# Altium schematic symbol library Portable power supply.SchLib: 65 symbols
Pins are listed as number, name and electrical type; pins without a type are passive.

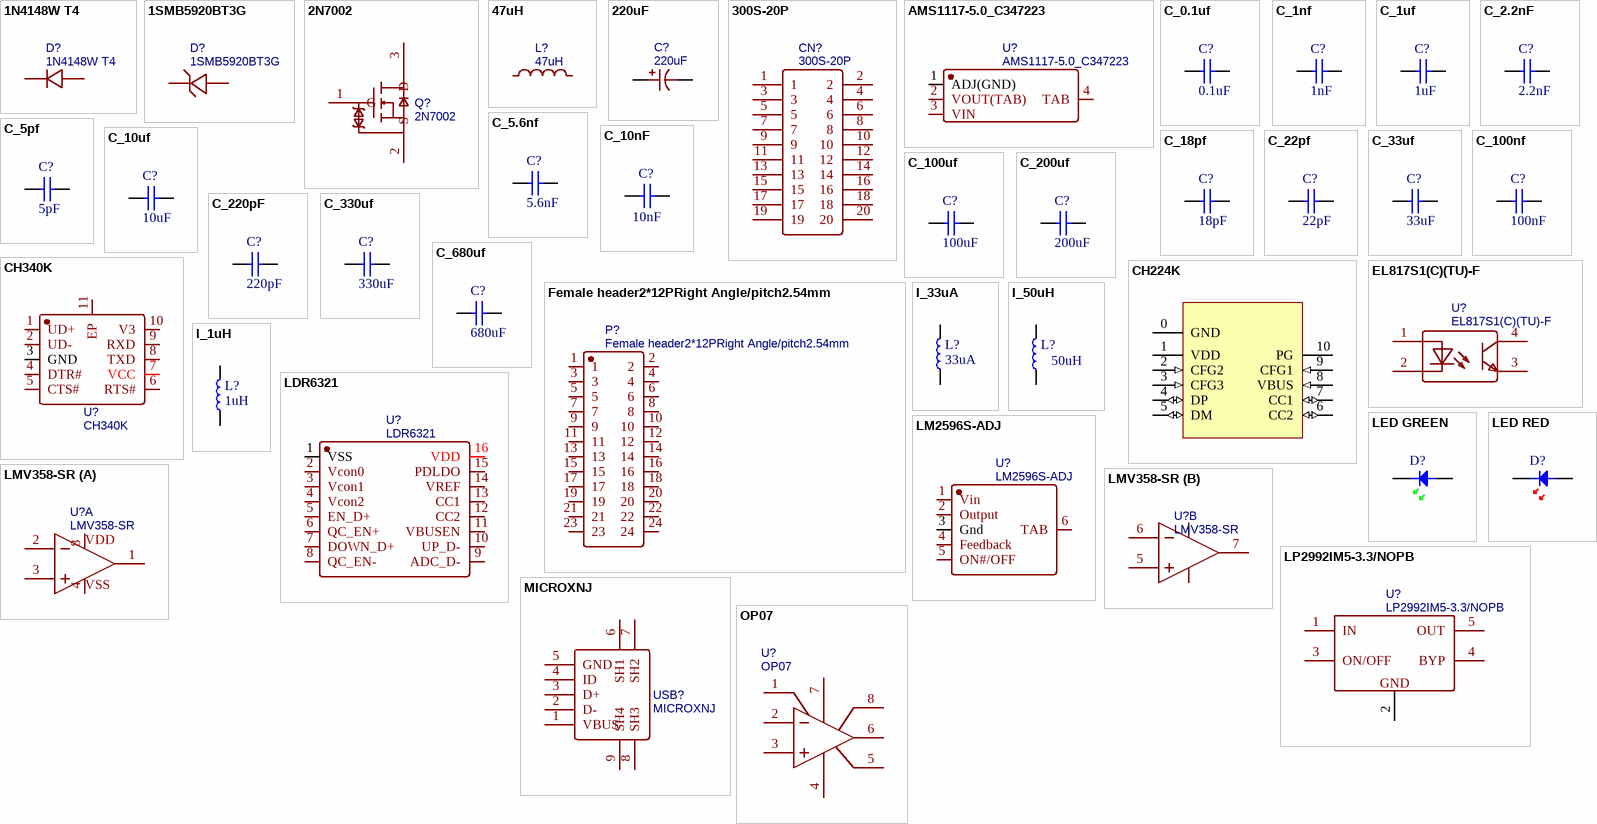
[diagram p0: symbols 1N4148W T4 to OP07]

## 1N4148W T4
designator D?
BOM_Manufacturer: CJ; Contributor: 立创EDA官方封装库; BOM_Supplier: LCSC; BOM_Manufacturer Part: 1N4148W T4; BOM_Supplier Part: C2099; BOM_JLCPCB Part Class: Extended Part; spicePre: D; spiceSymbolName: 1N4148W T4
footprint SOD-123_L2.8-W1.8-LS3.7-RD
pins: 1 K, 2 A

## 1SMB5920BT3G
designator D?
BOM_Manufacturer: ON; BOM_Supplier: LCSC; BOM_Manufacturer Part: 1SMB5920BT3G; BOM_Supplier Part: C50527; BOM_JLCPCB Part Class: Extended Part; spicePre: D; spiceSymbolName: 1SMB5920BT3G
footprint SMB_L4.6-W3.6-LS5.3-RD
pins: 1 K, 2 A

## 2N7002
designator Q?
BOM_Manufacturer: JSMSEMI(杰盛微); Contributor: LCSC; BOM_Supplier: LCSC; BOM_Supplier Part: C916396; BOM_Manufacturer Part: 2N7002; BOM_JLCPCB Part Class: Extended Part; spicePre: Q; spiceSymbolName: 2N7002_C916396
footprint SOT-23-3_L2.9-W1.3-P1.90-LS2.4-BR
pins: 1 G, 2 S, 3 D

## 47uH
designator L?
BOM_Manufacturer: YJYCOIN; BOM_Manufacturer Part: YSPI1365-470M; nameAlias: Inductance; Contributor: LCSC; BOM_Supplier: LCSC; BOM_Supplier Part: C497913; BOM_JLCPCB Part Class: Extended Part; spicePre: L; spiceSymbolName: YSPI1365-470M
footprint IND-SMD_L12.6-W12.6_MCF-13XX
pins: 1, 2

## 220uF
designator C?
BOM_Manufacturer: KNSCHA(科尼盛); BOM_Manufacturer Part: RVT220UF50V67RV0021; nameAlias: Capacitance; Contributor: LCSC; BOM_Supplier: LCSC; BOM_Supplier Part: C2887271; BOM_JLCPCB Part Class: Extended Part; spicePre: C; spiceSymbolName: RVT220UF50V67RV0021
footprint CAP-SMD_BD10.0-L10.3-W10.3-LS11.0-FD
pins: 1, 2

## 300S-20P
designator CN?
BOM_Manufacturer: Shenzhen Cankemeng; Contributor: LCSC; BOM_Supplier: LCSC; BOM_Supplier Part: C132442; BOM_Manufacturer Part: -; BOM_JLCPCB Part Class: Extended Part; spicePre: C; spiceSymbolName: 300S-20P
footprint CONN-TH_300S-20P
pins: 1, 2, 3, 4, 5, 6, 7, 8, 9, 10, 11, 12, 13, 14, 15, 16, 17, 18, 19, 20

## AMS1117-5.0_C347223
designator U?
BOM_Manufacturer: Youtai Semiconductor Co., Ltd.; Contributor: LCSC; BOM_Supplier: LCSC; BOM_Supplier Part: C347223; BOM_Manufacturer Part: AMS1117-5.0; BOM_JLCPCB Part Class: Extended Part; spicePre: U; spiceSymbolName: AMS1117-5.0_C347223
footprint SOT-223_L6.7-W3.5-P2.30-BR
pins: 1 ADJ(GND), 2 VOUT(TAB), 3 VIN, 4 TAB

## C_0.1uf
designator C?, comment 0.1uF
Capacitor; Reviewed by: RM - 2018/08/05; Revision: July-2002: Re-released for DXP Platform.; Supplier 1: *; Supplier Part Number 1: *; Value: 0.1uF
simulation model CAP (Default semiconductor capacitor)
footprint 0805C (0805 Footprint)
pins: 1, 2

## C_1nf
designator C?, comment 1nF
Capacitor; Reviewed by: RM - 2018/08/05; Revision: July-2002: Re-released for DXP Platform.; Supplier 1: *; Supplier Part Number 1: *; Value: 1nF
simulation model CAP (Default semiconductor capacitor)
footprint 0805C (0805 Footprint)
pins: 1, 2

## C_1uf
designator C?, comment 1uF
Capacitor; Reviewed by: RM - 2018/08/05; Revision: July-2002: Re-released for DXP Platform.; Supplier 1: *; Supplier Part Number 1: *; Value: 1uF
simulation model CAP (Default semiconductor capacitor)
footprint 0805C (0805 Footprint)
pins: 1, 2

## C_2.2nF
designator C?, comment 2.2nF
Capacitor; Reviewed by: RM - 2018/08/05; Revision: July-2002: Re-released for DXP Platform.; Supplier 1: *; Supplier Part Number 1: *; Value: 2.2nF
simulation model CAP (Default semiconductor capacitor)
footprint 0805C (0805 Footprint)
pins: 1, 2

## C_5.6nf
designator C?, comment 5.6nF
Capacitor; Reviewed by: RM - 2018/08/05; Revision: July-2002: Re-released for DXP Platform.; Supplier 1: *; Supplier Part Number 1: *; Value: 5.6nF
simulation model CAP (Default semiconductor capacitor)
footprint 0805C (0805 Footprint)
pins: 1, 2

## C_5pf
designator C?, comment 5pF
Capacitor; Reviewed by: RM - 2018/08/05; Revision: July-2002: Re-released for DXP Platform.; Supplier 1: *; Supplier Part Number 1: *; Value: 5pF
simulation model CAP (Default semiconductor capacitor)
footprint 0805C (0805 Footprint)
pins: 1, 2

## C_10nF
designator C?, comment 10nF
Capacitor; Reviewed by: RM - 2018/08/05; Revision: July-2002: Re-released for DXP Platform.; Supplier 1: *; Supplier Part Number 1: *; Value: 10nF
simulation model CAP (Default semiconductor capacitor)
footprint 0805C (0805 Footprint)
pins: 1, 2

## C_10uf
designator C?, comment 10uF
Capacitor; Reviewed by: RM - 2018/08/05; Revision: July-2002: Re-released for DXP Platform.; Supplier 1: *; Supplier Part Number 1: *; Value: 10uF
simulation model CAP (Default semiconductor capacitor)
footprint 0805C (0805 Footprint)
pins: 1, 2

## C_18pf
designator C?, comment 18pF
Capacitor; Reviewed by: RM - 2018/08/05; Revision: July-2002: Re-released for DXP Platform.; Supplier 1: *; Supplier Part Number 1: *; Value: 18pF
simulation model CAP (Default semiconductor capacitor)
footprint 0805C (0805 Footprint)
pins: 1, 2

## C_22pf
designator C?, comment 22pF
Capacitor; Reviewed by: RM - 2018/08/05; Revision: July-2002: Re-released for DXP Platform.; Supplier 1: *; Supplier Part Number 1: *; Value: 22pF
simulation model CAP (Default semiconductor capacitor)
footprint 0805C (0805 Footprint)
pins: 1, 2

## C_33uf
designator C?, comment 33uF
Capacitor; Reviewed by: RM - 2018/08/05; Revision: July-2002: Re-released for DXP Platform.; Supplier 1: *; Supplier Part Number 1: *; Value: 33uF
simulation model CAP (Default semiconductor capacitor)
footprint 0805C (0805 Footprint)
pins: 1, 2

## C_100nf
designator C?, comment 100nF
Capacitor; Reviewed by: RM - 2018/08/05; Revision: July-2002: Re-released for DXP Platform.; Supplier 1: *; Supplier Part Number 1: *; Value: 100nF
simulation model CAP (Default semiconductor capacitor)
footprint 0805C (0805 Footprint)
pins: 1, 2

## C_100uf
designator C?, comment 100uF
Capacitor; Reviewed by: RM - 2018/08/05; Revision: July-2002: Re-released for DXP Platform.; Supplier 1: *; Supplier Part Number 1: *; Value: 100uF
simulation model CAP (Default semiconductor capacitor)
footprint 0805C (0805 Footprint)
pins: 1, 2

## C_200uf
designator C?, comment 200uF
Capacitor; Reviewed by: RM - 2018/08/05; Revision: July-2002: Re-released for DXP Platform.; Supplier 1: *; Supplier Part Number 1: *; Value: 200uF
simulation model CAP (Default semiconductor capacitor)
footprint 0805C (0805 Footprint)
pins: 1, 2

## C_220pF
designator C?, comment 220pF
Capacitor; Reviewed by: RM - 2018/08/05; Revision: July-2002: Re-released for DXP Platform.; Supplier 1: *; Supplier Part Number 1: *; Value: 220pF
simulation model CAP (Default semiconductor capacitor)
footprint 0805C (0805 Footprint)
pins: 1, 2

## C_330uf
designator C?, comment 330uF
Capacitor; Reviewed by: RM - 2018/08/05; Revision: July-2002: Re-released for DXP Platform.; Supplier 1: *; Supplier Part Number 1: *; Value: 330uF
simulation model CAP (Default semiconductor capacitor)
footprint 0805C
pins: 1, 2

## C_680uf
designator C?, comment 680uF
Capacitor; Reviewed by: RM - 2018/08/05; Revision: July-2002: Re-released for DXP Platform.; Supplier 1: *; Supplier Part Number 1: *; Value: 680uF
simulation model CAP (Default semiconductor capacitor)
footprint 0805C (0805 Footprint)
pins: 1, 2

## CH224K
designator U?  (value not drawn)
USB PD & Type-C & Fast Charge Power Consumer Controller
footprint ESSOP10
pins: 0 GND (power), 1 VDD (power), 2 CFG2 (in), 3 CFG3 (in), 4 DP (io), 5 DM (io), 6 CC2 (io), 7 CC1 (io), 8 VBUS (in), 9 CFG1 (in), 10 PG

## CH340K
designator U?
BOM_Manufacturer: WCH(Jiangsu Qin Heng); Contributor: LCSC; BOM_Supplier: LCSC; BOM_Supplier Part: C968586; BOM_Manufacturer Part: CH340K; BOM_JLCPCB Part Class: Extended Part; spicePre: U; spiceSymbolName: CH340K
footprint ESOP-10_L4.9-W3.9-P1.00-LS6.2-BL-EP
pins: 1 UD+, 2 UD-, 3 GND, 4 DTR#, 5 CTS#, 6 RTS#, 7 VCC, 8 TXD, 9 RXD, 10 V3, 11 EP

## EL817S1(C)(TU)-F
designator U?
BOM_Manufacturer: EVERLIGHT; BOM_Supplier: LCSC; BOM_Manufacturer Part: EL817S1(C)(TU)-F; BOM_Supplier Part: C106900; BOM_JLCPCB Part Class: Basic Part; spicePre: U; spiceSymbolName: EL817S1(C)(TU)-F
footprint OPTO-SMD-4_L4.6-W6.5-P2.54-LS10.3-TL
pins: 1 AN, 2 CAT, 3 EM, 4 COL

## Female header2*12PRight Angle/pitch2.54mm
designator P?
BOM_Manufacturer: BOOMELE; BOM_Supplier: LCSC; BOM_Manufacturer Part: Female header2*12PRight Angle/pitch2.54mm; BOM_Supplier Part: C62744; BOM_JLCPCB Part Class: Extended Part; spicePre: P; spiceSymbolName: Female header2*12PRight Angle/pitch2.54mm
footprint HDR-TH_24P-P2.54-V-F-R2-C12-S2.54
pins: 1, 2, 3, 4, 5, 6, 7, 8, 9, 10, 11, 12, 13, 14, 15, 16, 17, 18, 19, 20, 21, 22, 23, 24

## I_33uA
designator L?, comment 33uA
Inductor; Reviewed by: RM - 2018/08/05; Supplier 1: *; Supplier Part Number 1: *; Value: 33uA
footprint 0805 (0805 Footprint)
pins: 1, 2

## I_50uH
designator L?, comment 50uH
Inductor; Reviewed by: RM - 2018/08/05; Supplier 1: *; Supplier Part Number 1: *; Value: 50uH
footprint 0805 (0805 Footprint)
pins: 1, 2

## l_1uH
designator L?, comment 1uH
Inductor; Reviewed by: RM - 2018/08/05; Supplier 1: *; Supplier Part Number 1: *; Value: 1uH
footprint 0805 (0805 Footprint)
pins: 1, 2

## LDR6321
designator U?
USB PD&QC & Type-C & Fast Charge Power Consumer Controller; BOM_Manufacturer: Legendary(乐得瑞); Contributor: LCSC; BOM_Supplier: LCSC; BOM_Supplier Part: C2919632; BOM_Manufacturer Part: LDR6321; BOM_JLCPCB Part Class: Extended Part; spicePre: U; spiceSymbolName: LDR6321
footprint SSOP-16_L5.0-W4.4-P0.65-LS6.4-BL
pins: 1 VSS, 2 Vcon0, 3 Vcon1, 4 Vcon2, 5 EN_D+, 6 QC_EN+, 7 DOWN_D+, 8 QC_EN-, 9 ADC_D-, 10 UP_D-, 11 VBUSEN, 12 CC2, 13 CC1, 14 VREF, 15 PDLDO, 16 VDD

## LED GREEN
designator D?
Light Emitting Diode; Reviewed by: RM - 2018/08/05; Revision: July-2002: Re-released for DXP Platform.; Supplier 1: Digi-Key; Supplier Part Number 1: 160-1423-1-ND
footprint 0805D-GREEN (0805 Diode)
pins: A, K

## LED RED
designator D?
Light Emitting Diode; Reviewed by: RM - 2018/08/05; Revision: July-2002: Re-released for DXP Platform.; Supplier 1: Digi-Key; Supplier Part Number 1: 475-1415-1-ND
footprint 0805D-RED (0805 Diode RED)
pins: A, K

## LM2596S-ADJ
designator U?
BOM_Manufacturer: UMW(Youtai Semiconductor Co., Ltd.); Contributor: LCSC; BOM_Supplier: LCSC; BOM_Supplier Part: C347423; BOM_Manufacturer Part: LM2596S-ADJ; BOM_JLCPCB Part Class: Extended Part; spicePre: U; spiceSymbolName: LM2596S-ADJ
footprint TO-263-5_L10.2-W8.9-P1.70-BR
pins: 1 Vin, 2 Output, 3 Gnd, 4 Feedback, 5 ON#/OFF, 6 TAB

## LMV358-SR
designator U?
BOM_Manufacturer: Gainsil; subpart_no: 2; BOM_Supplier: LCSC; BOM_Supplier Part: C362274; BOM_Manufacturer Part: LMV358-SR; BOM_JLCPCB Part Class: Extended Part; spicePre: U; spiceSymbolName: LMV358-SR
footprint SOP-8_L4.9-W3.9-P1.27-LS6.0-BL
part A pins: 1 OUTA, 2 INA-, 3 INA+, 4 VSS (power), 8 VDD (power)
part B pins: 5 INB+, 6 INB-, 7 OUTB

## LP2992IM5-3.3/NOPB
designator U?
BOM_Manufacturer: TI; Contributor: LCSC; BOM_Supplier: LCSC; BOM_Manufacturer Part: LP2992IM5-3.3/NOPB; BOM_Supplier Part: C129353; BOM_JLCPCB Part Class: Extended Part; spicePre: U; spiceSymbolName: LP2992IM5-3.3/NOPB
footprint SOT-23-5_L3.0-W1.7-P0.95-LS2.8-BR
pins: 1 IN, 2 GND, 3 ON/OFF, 4 BYP, 5 OUT

## MICROXNJ
designator USB?
BOM_Manufacturer: SHOU HAN; Contributor: LCSC; BOM_Supplier: LCSC; BOM_Supplier Part: C404969; BOM_Manufacturer Part: MicroXNJ; BOM_JLCPCB Part Class: Extended Part; spicePre: U; spiceSymbolName: MICROXNJ
footprint MICRO-USB-SMD_MICROXNJ
pins: 1 VBUS, 2 D-, 3 D+, 4 ID, 5 GND, 6 SH1, 7 SH2, 8 SH3, 9 SH4

## OP07
designator U?
BOM_Manufacturer: Hangzhou Ruimeng Tech; Contributor: LCSC; BOM_Supplier: LCSC; BOM_Supplier Part: C1508997; BOM_Manufacturer Part: OP07; BOM_JLCPCB Part Class: Extended Part; spicePre: U; spiceSymbolName: OP07
footprint SOP-8_L4.9-W3.9-P1.27-LS6.0-BL (Footprint not found)
pins: 1 VOS TRIM, 2 IN-, 3 IN+, 4 V-, 5 NC, 6 OUT, 7 V+, 8 VOS TRIM

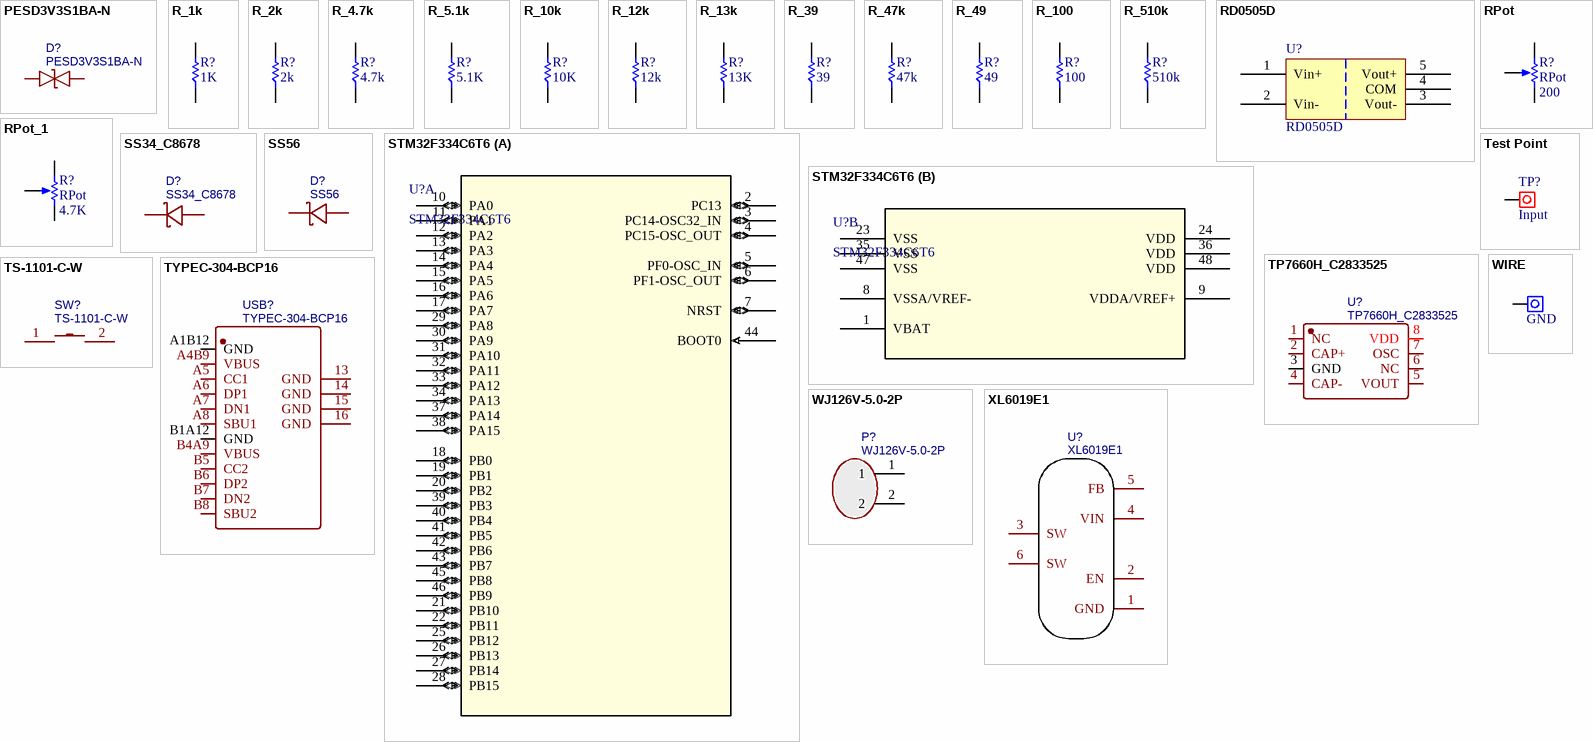
[diagram p1: symbols PESD3V3S1BA-N to XL6019E1]

## PESD3V3S1BA-N
designator D?
TVS3V3; BOM_Manufacturer: Bourne Semicon (Shenzhen); Contributor: LCSC; BOM_Supplier: LCSC; BOM_Supplier Part: C316037; BOM_Manufacturer Part: PESD3V3S1BA-N; BOM_JLCPCB Part Class: Extended Part; spicePre: D; spiceSymbolName: PESD3V3S1BA-N
footprint SOD-523_L1.2-W0.8-LS1.6-BI
pins: 1, 2

## R_1k
designator R?, comment 1K
Resistor; Reviewed by: RM - 2018/08/05; Supplier 1: *; Suppler Part Number 1: *; Value: 1K
footprint 0805 (0805 Footprint)
simulation model RES (Default semiconductor resistor)
pins: 1, 2

## R_2k
designator R?, comment 2k
Resistor; Reviewed by: RM - 2018/08/05; Supplier 1: *; Suppler Part Number 1: *; Value: 2k
footprint 0805 (0805 Footprint)
simulation model RES (Default semiconductor resistor)
pins: 1, 2

## R_4.7k
designator R?, comment 4.7k
Resistor; Reviewed by: RM - 2018/08/05; Supplier 1: *; Suppler Part Number 1: *; Value: 4.7k
footprint 0805 (0805 Footprint)
simulation model RES (Default semiconductor resistor)
pins: 1, 2

## R_5.1k
designator R?, comment 5.1K
Resistor; Reviewed by: RM - 2018/08/05; Supplier 1: *; Suppler Part Number 1: *; Value: 5.1K
footprint 0805 (0805 Footprint)
simulation model RES (Default semiconductor resistor)
pins: 1, 2

## R_10k
designator R?, comment 10K
Resistor; Reviewed by: RM - 2018/08/05; Supplier 1: *; Suppler Part Number 1: *; Value: 10K
footprint 0805 (0805 Footprint)
simulation model RES (Default semiconductor resistor)
pins: 1, 2

## R_12k
designator R?, comment 12k
Resistor; Reviewed by: RM - 2018/08/05; Supplier 1: *; Suppler Part Number 1: *; Value: 12k
footprint 0805 (0805 Footprint)
simulation model RES (Default semiconductor resistor)
pins: 1, 2

## R_13k
designator R?, comment 13K
Resistor; Reviewed by: RM - 2018/08/05; Supplier 1: *; Suppler Part Number 1: *; Value: 13K
footprint 0805 (0805 Footprint)
simulation model RES (Default semiconductor resistor)
pins: 1, 2

## R_39
designator R?, comment 39
Resistor; Reviewed by: RM - 2018/08/05; Supplier 1: *; Suppler Part Number 1: *; Value: 39
footprint 0805 (0805 Footprint)
simulation model RES (Default semiconductor resistor)
pins: 1, 2

## R_47k
designator R?, comment 47k
Resistor; Reviewed by: RM - 2018/08/05; Supplier 1: *; Suppler Part Number 1: *; Value: 47k
footprint 0805 (0805 Footprint)
simulation model RES (Default semiconductor resistor)
pins: 1, 2

## R_49
designator R?, comment 49
Resistor; Reviewed by: RM - 2018/08/05; Supplier 1: *; Suppler Part Number 1: *; Value: 49
footprint 0805 (0805 Footprint)
simulation model RES (Default semiconductor resistor)
pins: 1, 2

## R_100
designator R?, comment 100
Resistor; Reviewed by: RM - 2018/08/05; Supplier 1: *; Suppler Part Number 1: *; Value: 100
footprint 0805 (0805 Footprint)
simulation model RES (Default semiconductor resistor)
pins: 1, 2

## R_510k
designator R?, comment 510k
Resistor; Reviewed by: RM - 2018/08/05; Supplier 1: *; Suppler Part Number 1: *; Value: 510k
footprint 0805 (0805 Footprint)
simulation model RES (Default semiconductor resistor)
pins: 1, 2

## RD0505D
designator U?
(ADV) DC to DC converter 5V in +-5V out; Reviewed by: RM - 2018/08/05; Supplier Part Number 1: 945-1136-ND; Supplier 1: Digi-Key
footprint SIP_NMG (SIP for NMG DC to DC)
pins: 1 Vin+, 2 Vin-, 3 Vout-, 4 COM, 5 Vout+

## RPot
designator R?  value 200
Potentiometer; Sim Note: Enter the Resistance value and the set point into parameter fields.; Set Position: 0.5; Published: 8-Jun-2000; LatestRevisionDate: 17-Jul-2002; LatestRevisionNote: Re-released for DXP Platform.; PackageReference: VR5; Publisher: Altium Limited; PackageDescription: Variable Resistor, Thru-Hole; 3 Leads
footprint VR5 (Thru-Hole; 3 Leads)
pins: 1 TOP, 2 TAP, 3 BOT
1 alternate drawing of the same symbol

## RPot_1
designator R?, comment RPot  value 4.7K
Potentiometer; Sim Note: Enter the Resistance value and the set point into parameter fields.; Set Position: 0.5; Published: 8-Jun-2000; LatestRevisionDate: 17-Jul-2002; LatestRevisionNote: Re-released for DXP Platform.; PackageReference: VR5; Publisher: Altium Limited; PackageDescription: Variable Resistor, Thru-Hole; 3 Leads
footprint VR5 (Thru-Hole; 3 Leads)
pins: 1 TOP, 2 TAP, 3 BOT
1 alternate drawing of the same symbol

## SS34_C8678
designator D?
BOM_Manufacturer Part: SS34; BOM_Manufacturer: MDD; BOM_Supplier: LCSC; BOM_Supplier Part: C8678; BOM_JLCPCB Part Class: Basic Part; spicePre: D; spiceSymbolName: SS34_C8678
footprint DO-214AC_L4.3-W2.7-LS5.3-RD
pins: 1 K, 2 A

## SS56
designator D?
BOM_Manufacturer: MDD; BOM_Supplier: LCSC; BOM_Manufacturer Part: SS56; BOM_Supplier Part: C65009; BOM_JLCPCB Part Class: Extended Part; spicePre: D; spiceSymbolName: SS56
footprint SMA_L4.3-W2.6-LS5.2-RD
pins: 1 K, 2 A

## STM32F334C6T6
designator U?
No Description Available; Mfr_Name: STMicroelectronics; Copyright: Copyright (C) 2021 Ultra Librarian. All rights reserved.; Manufacturer_Part_Number: STM32F334C6T6; RefDes: RefDes; Type: DEV
footprint LQFP48-7x7mm
part A pins: 2 PC13 (io), 3 PC14-OSC32_IN (io), 4 PC15-OSC_OUT (io), 5 PF0-OSC_IN (io), 6 PF1-OSC_OUT (io), 7 NRST (io), 10 PA0 (io), 11 PA1 (io), 12 PA2 (io), 13 PA3 (io), 14 PA4 (io), 15 PA5 (io), 16 PA6 (io), 17 PA7 (io), 18 PB0 (io), 19 PB1 (io), 20 PB2 (io), 21 PB10 (io), 22 PB11 (io), 25 PB12 (io), 26 PB13 (io), 27 PB14 (io), 28 PB15 (io), 29 PA8 (io), 30 PA9 (io), 31 PA10 (io), 32 PA11 (io), 33 PA12 (io), 34 PA13 (io), 37 PA14 (io), 38 PA15 (io), 39 PB3 (io), 40 PB4 (io), 41 PB5 (io), 42 PB6 (io), 43 PB7 (io), 44 BOOT0 (in), 45 PB8 (io), 46 PB9 (io)
part B pins: 1 VBAT (power), 8 VSSA/VREF- (power), 9 VDDA/VREF+ (power), 23 VSS (power), 24 VDD (power), 35 VSS (power), 36 VDD (power), 47 VSS (power), 48 VDD (power)

## Test Point
designator TP?, comment INPUT
Pad; Value: Input
footprint Testpoin (Testpoint)
pins: 1

## TP7660H_C2833525
designator U?
BOM_Manufacturer: TOPPOWER(南京拓微); Contributor: LCSC; BOM_Supplier: LCSC; BOM_Supplier Part: C2833525; BOM_Manufacturer Part: TP7660H; BOM_JLCPCB Part Class: Extended Part; spicePre: U; spiceSymbolName: TP7660H_C2833525
footprint SOIC-8_L4.9-W3.9-P1.27-LS6.0-BL
pins: 1 NC, 2 CAP+, 3 GND, 4 CAP-, 5 VOUT, 6 NC, 7 OSC, 8 VDD

## TS-1101-C-W
designator SW?
BOM_Manufacturer: XKB Connectivity(中国星坤); Contributor: LCSC; BOM_Supplier: LCSC; BOM_Supplier Part: C318938; BOM_Manufacturer Part: TS-1101-C-W; BOM_JLCPCB Part Class: Extended Part; spicePre: S; spiceSymbolName: TS-1101-C-W
footprint SW-SMD_L6.0-W3.3-LS8.0
pins: 1, 2

## TYPEC-304-BCP16
designator USB?
BOM_Manufacturer: XUNPU; Contributor: LCSC; BOM_Supplier: LCSC; BOM_Supplier Part: C720629; BOM_Manufacturer Part: TYPEC-304-BCP16; BOM_JLCPCB Part Class: Extended Part; spicePre: U; spiceSymbolName: TYPEC-304-BCP16
footprint USB-C-SMD_TYPEC-304-BCP16
pins: 13 GND, 14 GND, 15 GND, 16 GND, A1B12 GND, A4B9 VBUS, A5 CC1, A6 DP1, A7 DN1, A8 SBU1, B1A12 GND, B4A9 VBUS, B5 CC2, B6 DP2, B7 DN2, B8 SBU2

## WIRE
designator TP?, comment GND
Pad
footprint PIN 1.8mm (Single Pin)
pins: 1

## WJ126V-5.0-2P
designator P?
BOM_Manufacturer: ReliaPro; BOM_Supplier: LCSC; BOM_Manufacturer Part: WJ126V-5.0-2P; BOM_Supplier Part: C8404; BOM_JLCPCB Part Class: Extended Part; spicePre: P; spiceSymbolName: WJ126V-5.0-2P
footprint CONN-TH_WJ126V-5.0-2P
pins: 1, 2

## XL6019E1
designator U?
BOM_Manufacturer: XLSEMI; BOM_Supplier: LCSC; BOM_Manufacturer Part: XL6019E1; BOM_Supplier Part: C73018; BOM_JLCPCB Part Class: Extended Part; spicePre: U; spiceSymbolName: XL6019E1
footprint TO-263-5_L10.2-W9.9-P1.70-LS14.4-TL
pins: 1 GND, 2 EN, 3 SW, 4 VIN, 5 FB, 6 SW